# Altium schematic symbol library LM2675.SchLib: 1 symbol
Pins are listed as number, name and electrical type; pins without a type are passive.

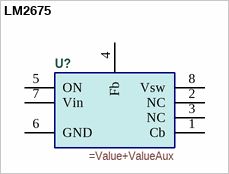
[diagram p0: symbol LM2675]

## LM2675
designator U?
=Description
pins: 1 Cb, 2 NC, 3 NC, 4 Fb (power), 5 ON, 6 GND (power), 7 Vin (power), 8 Vsw (power)